# Altium schematic symbol library Regulator_Linear.SchLib: 1620 symbols (part 9 of 16)
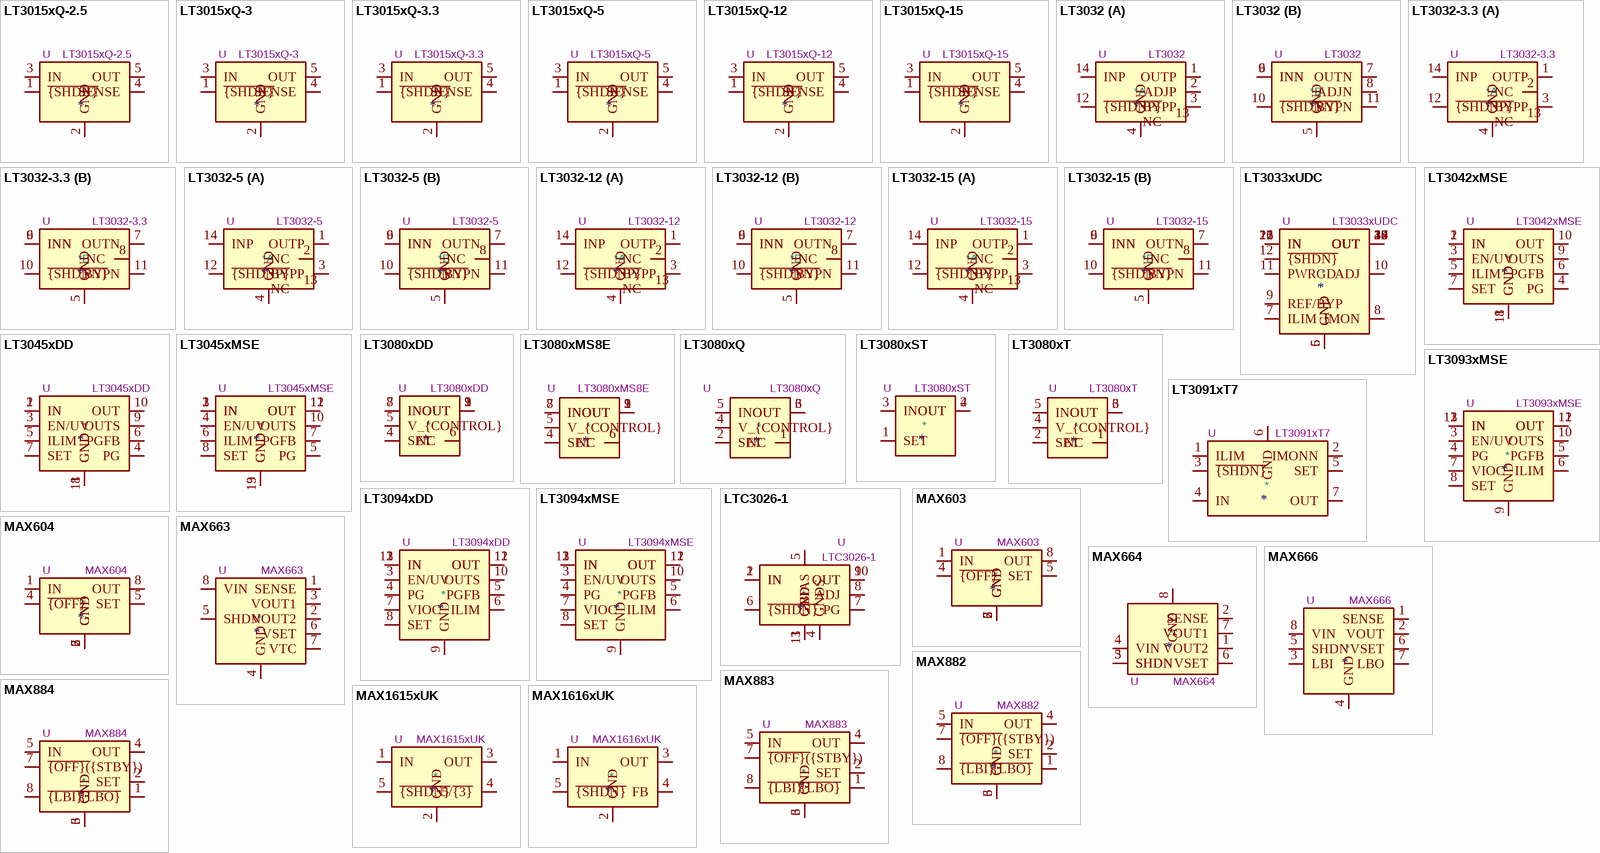
[diagram p48: symbols LT3015xQ-2.5 to MAX1616xUK]

## LT3015xQ-5
designator *  value LT3015xQ-5  Reference: U
-5V, 1.5A, Low Noise, Negative Linear Regulator with Precision Current Limit, TO-263-5; ki_keywords: negative voltage regulator; ki_fp_filters: TO*263*; Footprint: Package_TO_SOT_SMD:TO-263-5_TabPin3; Datasheet: https://www.analog.com/media/en/technical-documentation/data-sheets/3015fb.pdf; Description_: -5V, 1.5A, Low Noise, Negative Linear Regulator with Precision Current Limit, TO-263-5
pins: 1 ~{{SHDN}}, 2 GND, 3 IN, 4 SENSE, 5 OUT

## LT3015xQ-12
designator *  value LT3015xQ-12  Reference: U
-12V, 1.5A, Low Noise, Negative Linear Regulator with Precision Current Limit, TO-263-5; ki_keywords: negative voltage regulator; ki_fp_filters: TO*263*; Footprint: Package_TO_SOT_SMD:TO-263-5_TabPin3; Datasheet: https://www.analog.com/media/en/technical-documentation/data-sheets/3015fb.pdf; Description_: -12V, 1.5A, Low Noise, Negative Linear Regulator with Precision Current Limit, TO-263-5
pins: 1 ~{{SHDN}}, 2 GND, 3 IN, 4 SENSE, 5 OUT

## LT3015xQ-15
designator *  value LT3015xQ-15  Reference: U
-15V, 1.5A, Low Noise, Negative Linear Regulator with Precision Current Limit, TO-263-5; ki_keywords: negative voltage regulator; ki_fp_filters: TO*263*; Footprint: Package_TO_SOT_SMD:TO-263-5_TabPin3; Datasheet: https://www.analog.com/media/en/technical-documentation/data-sheets/3015fb.pdf; Description_: -15V, 1.5A, Low Noise, Negative Linear Regulator with Precision Current Limit, TO-263-5
pins: 1 ~{{SHDN}}, 2 GND, 3 IN, 4 SENSE, 5 OUT

## LT3032
designator *  value LT3032  Reference: U
150mA, Dual Low Dropout Linear Regulator, Positive/Negative Low Noise, Adjustable Output, DFN-14; ki_keywords: LDO low noise; ki_fp_filters: Linear*DE14MA*; Footprint: Package_DFN_QFN:Linear_DE14MA; Datasheet: https://www.analog.com/media/en/technical-documentation/data-sheets/3032ff.pdf; Description_: 150mA, Dual Low Dropout Linear Regulator, Positive/Negative Low Noise, Adjustable Output, DFN-14
part A pins: 1 OUTP, 2 ADJP, 3 BYPP, 4 GND, 12 ~{{SHDNP}}, 13 NC, 14 INP
part B pins: 5 GND, 6 INN, 7 OUTN, 8 ADJN, 9 INN, 10 ~{{SHDNN}}, 11 BYPN

## LT3032-3.3
designator *  value LT3032-3.3  Reference: U
150mA, Dual Low Dropout Linear Regulator, Positive/Negative Low Noise, 3.3V Output, DFN-14; ki_keywords: LDO low noise; ki_fp_filters: Linear*DE14MA*; Footprint: Package_DFN_QFN:Linear_DE14MA; Datasheet: https://www.analog.com/media/en/technical-documentation/data-sheets/3032ff.pdf; Description_: 150mA, Dual Low Dropout Linear Regulator, Positive/Negative Low Noise, 3.3V Output, DFN-14
part A pins: 1 OUTP, 2 NC, 3 BYPP, 4 GND, 12 ~{{SHDNP}}, 13 NC, 14 INP
part B pins: 5 GND, 6 INN, 7 OUTN, 8 NC, 9 INN, 10 ~{{SHDNN}}, 11 BYPN

## LT3032-5
designator *  value LT3032-5  Reference: U
150mA, Dual Low Dropout Linear Regulator, Positive/Negative Low Noise, 5V Output, DFN-14; ki_keywords: LDO low noise; ki_fp_filters: Linear*DE14MA*; Footprint: Package_DFN_QFN:Linear_DE14MA; Datasheet: https://www.analog.com/media/en/technical-documentation/data-sheets/3032ff.pdf; Description_: 150mA, Dual Low Dropout Linear Regulator, Positive/Negative Low Noise, 5V Output, DFN-14
part A pins: 1 OUTP, 2 NC, 3 BYPP, 4 GND, 12 ~{{SHDNP}}, 13 NC, 14 INP
part B pins: 5 GND, 6 INN, 7 OUTN, 8 NC, 9 INN, 10 ~{{SHDNN}}, 11 BYPN

## LT3032-12
designator *  value LT3032-12  Reference: U
150mA, Dual Low Dropout Linear Regulator, Positive/Negative Low Noise, 12V Output, DFN-14; ki_keywords: LDO low noise; ki_fp_filters: Linear*DE14MA*; Footprint: Package_DFN_QFN:Linear_DE14MA; Datasheet: https://www.analog.com/media/en/technical-documentation/data-sheets/3032ff.pdf; Description_: 150mA, Dual Low Dropout Linear Regulator, Positive/Negative Low Noise, 12V Output, DFN-14
part A pins: 1 OUTP, 2 NC, 3 BYPP, 4 GND, 12 ~{{SHDNP}}, 13 NC, 14 INP
part B pins: 5 GND, 6 INN, 7 OUTN, 8 NC, 9 INN, 10 ~{{SHDNN}}, 11 BYPN

## LT3032-15
designator *  value LT3032-15  Reference: U
150mA, Dual Low Dropout Linear Regulator, Positive/Negative Low Noise, 15V Output, DFN-14; ki_keywords: LDO low noise; ki_fp_filters: Linear*DE14MA*; Footprint: Package_DFN_QFN:Linear_DE14MA; Datasheet: https://www.analog.com/media/en/technical-documentation/data-sheets/3032ff.pdf; Description_: 150mA, Dual Low Dropout Linear Regulator, Positive/Negative Low Noise, 15V Output, DFN-14
part A pins: 1 OUTP, 2 NC, 3 BYPP, 4 GND, 12 ~{{SHDNP}}, 13 NC, 14 INP
part B pins: 5 GND, 6 INN, 7 OUTN, 8 NC, 9 INN, 10 ~{{SHDNN}}, 11 BYPN

## LT3033xUDC
designator *  value LT3033xUDC  Reference: U
3A, Very Low Dropout Linear Regulator with Programmable Current Limit, 0.95V to 10Vin, 0.2V to 9.7Vout, QFN-20; ki_keywords: linear positive voltage regulator; ki_fp_filters: *QFN*4EP*3x4mm*P0.5mm*; Footprint: Package_DFN_QFN:UDC-QFN-20-4EP_3x4mm_P0.5mm_EP0.41x0.25mm; Datasheet: https://www.analog.com/media/en/technical-documentation/data-sheets/LT3033.pdf; Description_: 3A, Very Low Dropout Linear Regulator with Programmable Current Limit, 0.95V to 10Vin, 0.2V to 9.7Vout, QFN-20
pins: 1 IN, 2 IN, 3 OUT, 4 OUT, 5 GND, 6 GND, 7 ILIM, 8 IMON, 9 REF/BYP, 10 ADJ, 11 PWRGD, 12 ~{{SHDN}}, 13 OUT, 14 OUT, 15 IN, 16 IN, 17 OUT, 18 OUT, 19 OUT, 20 OUT, 21 IN, 22 IN, 23 OUT, 24 OUT

## LT3042xMSE
designator *  value LT3042xMSE  Reference: U
200mA, Adjustable, Ultralow Noise, Ultrahigh PSRR RF Linear Regulator, MSOP-10; ki_keywords: linear voltage regulator low-noise; ki_fp_filters: MSOP*1EP*3x3mm*P0.5mm*; Footprint: Package_SO:MSOP-10-1EP_3x3mm_P0.5mm_EP1.68x1.88mm; Datasheet: https://www.analog.com/media/en/technical-documentation/data-sheets/3042fb.pdf; Description_: 200mA, Adjustable, Ultralow Noise, Ultrahigh PSRR RF Linear Regulator, MSOP-10
pins: 1 IN, 2 IN, 3 EN/UV, 4 PG, 5 ILIM, 6 PGFB, 7 SET, 8 GND, 9 OUTS, 10 OUT, 11 GND

## LT3045xDD
designator *  value LT3045xDD  Reference: U
500mA, Adjustable, Ultralow Noise, Ultrahigh PSRR Linear Regulator, DFN-10; ki_keywords: linear voltage regulator low-noise; ki_fp_filters: DFN*1EP*3x3mm*P0.5mm*; Footprint: Package_DFN_QFN:DFN-10-1EP_3x3mm_P0.5mm_EP1.65x2.38mm; Datasheet: https://www.analog.com/media/en/technical-documentation/data-sheets/3045fa.pdf; Description_: 500mA, Adjustable, Ultralow Noise, Ultrahigh PSRR Linear Regulator, DFN-10
pins: 1 IN, 2 IN, 3 EN/UV, 4 PG, 5 ILIM, 6 PGFB, 7 SET, 8 GND, 9 OUTS, 10 OUT, 11 GND

## LT3045xMSE
designator *  value LT3045xMSE  Reference: U
500mA, Adjustable, Ultralow Noise, Ultrahigh PSRR Linear Regulator, MSOP-12; ki_keywords: linear voltage regulator low-noise; ki_fp_filters: MSOP*1EP*3x4.039mm*P0.65mm*; Footprint: Package_SO:MSOP-12-1EP_3x4.039mm_P0.65mm_EP1.651x2.845mm; Datasheet: https://www.analog.com/media/en/technical-documentation/data-sheets/3045fa.pdf; Description_: 500mA, Adjustable, Ultralow Noise, Ultrahigh PSRR Linear Regulator, MSOP-12
pins: 1 IN, 2 IN, 3 IN, 4 EN/UV, 5 PG, 6 ILIM, 7 PGFB, 8 SET, 9 GND, 10 OUTS, 11 OUT, 12 OUT, 13 GND

## LT3080xDD
designator *  value LT3080xDD  Reference: U
Adjustable 1.1A Single Resistor Low Dropout Regulator, DFN-8; ki_keywords: linear analog linear-technology; ki_fp_filters: DFN*1EP?3x3mm*P0.5mm*; Footprint: Package_DFN_QFN:DFN-8-1EP_3x3mm_P0.5mm_EP1.66x2.38mm; Datasheet: https://www.analog.com/media/en/technical-documentation/data-sheets/3080fc.pdf; Description_: Adjustable 1.1A Single Resistor Low Dropout Regulator, DFN-8
pins: 1 OUT, 2 OUT, 3 OUT, 4 SET, 5 V_{CONTROL}, 6 NC, 7 IN, 8 IN, 9 OUT

## LT3080xMS8E
designator *  value LT3080xMS8E  Reference: U
Adjustable 1.1A Single Resistor Low Dropout Regulator, MSOP-8; ki_keywords: linear analog linear-technology; ki_fp_filters: MSOP*1EP?3x3mm*P0.65mm*; Footprint: Package_SO:MSOP-8-1EP_3x3mm_P0.65mm_EP1.68x1.88mm; Datasheet: https://www.analog.com/media/en/technical-documentation/data-sheets/3080fc.pdf; Description_: Adjustable 1.1A Single Resistor Low Dropout Regulator, MSOP-8
pins: 1 OUT, 2 OUT, 3 OUT, 4 SET, 5 V_{CONTROL}, 6 NC, 7 IN, 8 IN, 9 OUT

## LT3080xQ
designator *  value LT3080xQ  Reference: U
Adjustable 1.1A Single Resistor Low Dropout Regulator, TO-263; ki_keywords: linear analog linear-technology; ki_fp_filters: TO?263*TabPin3*; Footprint: Package_TO_SOT_SMD:TO-263-5_TabPin3; Datasheet: https://www.analog.com/media/en/technical-documentation/data-sheets/3080fc.pdf; Description_: Adjustable 1.1A Single Resistor Low Dropout Regulator, TO-263
pins: 1 NC, 2 SET, 3 OUT, 4 V_{CONTROL}, 5 IN, 6 OUT

## LT3080xST
designator *  value LT3080xST  Reference: U
Adjustable 1.1A Single Resistor Low Dropout Regulator, SOT-223; ki_keywords: linear analog linear-technology; ki_fp_filters: SOT?223*; Footprint: Package_TO_SOT_SMD:SOT-223; Datasheet: https://www.analog.com/media/en/technical-documentation/data-sheets/3080fc.pdf; Description_: Adjustable 1.1A Single Resistor Low Dropout Regulator, SOT-223
pins: 1 SET, 2 OUT, 3 IN, 4 OUT

## LT3080xT
designator *  value LT3080xT  Reference: U
Adjustable 1.1A Single Resistor Low Dropout Regulator, TO-220; ki_keywords: linear analog linear-technology; ki_fp_filters: TO?220*StaggerOdd*; Footprint: Package_TO_SOT_THT:TO-220-5_P3.4x3.7mm_StaggerOdd_Lead3.8mm_Vertical; Datasheet: https://www.analog.com/media/en/technical-documentation/data-sheets/3080fc.pdf; Description_: Adjustable 1.1A Single Resistor Low Dropout Regulator, TO-220
pins: 1 NC, 2 SET, 3 OUT, 4 V_{CONTROL}, 5 IN, 6 OUT

## LT3091xT7
designator *  value LT3091xT7  Reference: U
–36V, 1.5A Negative Linear Adjustable Regulator with Programmable Current Limit, TO-220-7; ki_keywords: LDO low noise; ki_fp_filters: TO*220*P2.54x3.7mm*; Footprint: Package_TO_SOT_THT:TO-220-7_P2.54x3.7mm_StaggerOdd_Lead3.8mm_Vertical; Datasheet: https://www.analog.com/media/en/technical-documentation/data-sheets/3091fa.pdf; Description_: –36V, 1.5A Negative Linear Adjustable Regulator with Programmable Current Limit, TO-220-7
pins: 1 ILIM, 2 IMONN, 3 ~{{SHDN}}, 4 IN, 5 SET, 6 GND, 7 OUT

## LT3093xMSE
designator *  value LT3093xMSE  Reference: U
-200mA, Adjustable, Ultralow Noise, Ultrahigh PSRR RF Negative Linear Regulator, MSOP-12; ki_keywords: linear negative voltage regulator low-noise; ki_fp_filters: MSOP*1EP*3x4.039mm*P0.65mm*; Footprint: Package_SO:MSOP-12-1EP_3x4.039mm_P0.65mm_EP1.651x2.845mm; Datasheet: https://www.analog.com/media/en/technical-documentation/data-sheets/lt3093.pdf; Description_: -200mA, Adjustable, Ultralow Noise, Ultrahigh PSRR RF Negative Linear Regulator, MSOP-12
pins: 1 IN, 2 IN, 3 EN/UV, 4 PG, 5 PGFB, 6 ILIM, 7 VIOC, 8 SET, 9 GND, 10 OUTS, 11 OUT, 12 OUT, 13 IN

## LT3094xDD
designator *  value LT3094xDD  Reference: U
–20V, 500mA, Ultralow Noise, Ultrahigh PSRR Negative Linear Regulator, -1.8..-20Vin, 0..-19.5Vout, DFN-12; ki_keywords: linear negative voltage regulator low-noise; ki_fp_filters: DFN*1EP*3x3mm*P0.45mm*; Footprint: Package_DFN_QFN:DFN-12-1EP_3x3mm_P0.45mm_EP1.65x2.38mm_ThermalVias; Datasheet: https://www.analog.com/media/en/technical-documentation/data-sheets/LT3094.pdf; Description_: –20V, 500mA, Ultralow Noise, Ultrahigh PSRR Negative Linear Regulator, -1.8..-20Vin, 0..-19.5Vout, DFN-12
pins: 1 IN, 2 IN, 3 EN/UV, 4 PG, 5 PGFB, 6 ILIM, 7 VIOC, 8 SET, 9 GND, 10 OUTS, 11 OUT, 12 OUT, 13 IN

## LT3094xMSE
designator *  value LT3094xMSE  Reference: U
-500mA, Adjustable, Ultralow Noise, Ultrahigh PSRR RF Negative Linear Regulator, MSOP-12; ki_keywords: linear negative voltage regulator low-noise; ki_fp_filters: MSOP*1EP*3x4.039mm*P0.65mm*; Footprint: Package_SO:MSOP-12-1EP_3x4.039mm_P0.65mm_EP1.651x2.845mm; Datasheet: https://www.analog.com/media/en/technical-documentation/data-sheets/LT3094.pdf; Description_: -500mA, Adjustable, Ultralow Noise, Ultrahigh PSRR RF Negative Linear Regulator, MSOP-12
pins: 1 IN, 2 IN, 3 EN/UV, 4 PG, 5 PGFB, 6 ILIM, 7 VIOC, 8 SET, 9 GND, 10 OUTS, 11 OUT, 12 OUT, 13 IN

## LTC3026-1
designator *  value LTC3026-1  Reference: U
1.14V-5.5V, 1.5A Low Input Voltage VLDO Linear Regulator; ki_keywords: regulator LDO positive adjustable; ki_fp_filters: DFN*1EP*3x3mm*P0.5mm*EP1.65x2.38mm* MSOP*1EP*3x3mm*P0.5mm*EP1.68x1.88mm*; Datasheet: https://www.analog.com/media/en/technical-documentation/data-sheets/30261f.pdf; Description_: 1.14V-5.5V, 1.5A Low Input Voltage VLDO Linear Regulator
pins: 1 IN, 2 IN, 3 GND, 4 GNDS, 5 BIAS, 6 ~{{SHDN}}, 7 PG, 8 ADJ, 9 OUT, 10 OUT, 11 GND

## MAX603
designator *  value MAX603  Reference: U
500mA Linear LDO Regulator, Fixed Output 5V, DIP-8/SO-8; ki_keywords: Linear LDO Regulator 500mA 5V fixed; ki_fp_filters: DIP*W7.62mm* SOIC*3.9x4.9mm*P1.27mm*; Datasheet: http://datasheets.maximintegrated.com/en/ds/MAX603-MAX604.pdf; Description_: 500mA Linear LDO Regulator, Fixed Output 5V, DIP-8/SO-8
pins: 1 IN, 2 GND, 3 GND, 4 ~{{OFF}}, 5 SET, 6 GND, 7 GND, 8 OUT

## MAX604
designator *  value MAX604  Reference: U
500mA Linear LDO Regulator, Fixed Output 3.3V, DIP-8/SO-8; ki_keywords: Linear LDO Regulator 500mA 3.3V fixed; ki_fp_filters: DIP*W7.62mm* SOIC*3.9x4.9mm*P1.27mm*; Datasheet: http://datasheets.maximintegrated.com/en/ds/MAX603-MAX604.pdf; Description_: 500mA Linear LDO Regulator, Fixed Output 3.3V, DIP-8/SO-8
pins: 1 IN, 2 GND, 3 GND, 4 ~{{OFF}}, 5 SET, 6 GND, 7 GND, 8 OUT

## MAX663
designator *  value MAX663  Reference: U
50mA Dual Mode 5V/Programmable Micropower Voltage Regulator, DIP-8/SO-8; ki_keywords: Linear LDO Regulator 50mA 5V fixed; ki_fp_filters: DIP*W7.62mm* SOIC*3.9x4.9mm*P1.27mm*; Datasheet: http://pdfserv.maximintegrated.com/en/ds/MAX663-MAX666.pdf; Description_: 50mA Dual Mode 5V/Programmable Micropower Voltage Regulator, DIP-8/SO-8
pins: 1 SENSE, 2 VOUT2, 3 VOUT1, 4 GND, 5 SHDN, 6 VSET, 7 VTC, 8 VIN

## MAX664
designator *  value MAX664  Reference: U
50mA Dual Mode -5V/Programmable Micropower Negative Voltage Regulator, DIP-8/SO-8; ki_keywords: Linear LDO Regulator 50mA -5V fixed negative; ki_fp_filters: DIP*W7.62mm* SOIC*3.9x4.9mm*P1.27mm*; Datasheet: http://pdfserv.maximintegrated.com/en/ds/MAX663-MAX666.pdf; Description_: 50mA Dual Mode -5V/Programmable Micropower Negative Voltage Regulator, DIP-8/SO-8
pins: 1 VOUT2, 2 SENSE, 3 SHDN, 4 VIN, 5 SHDN, 6 VSET, 7 VOUT1, 8 GND

## MAX666
designator *  value MAX666  Reference: U
50mA Dual Mode 5V/Programmable Micropower Voltage Regulator, DIP-8/SO-8; ki_keywords: Linear LDO Regulator 50mA 5V fixed; ki_fp_filters: DIP*W7.62mm* SOIC*3.9x4.9mm*P1.27mm*; Datasheet: http://pdfserv.maximintegrated.com/en/ds/MAX663-MAX666.pdf; Description_: 50mA Dual Mode 5V/Programmable Micropower Voltage Regulator, DIP-8/SO-8
pins: 1 SENSE, 2 VOUT, 3 LBI, 4 GND, 5 SHDN, 6 VSET, 7 LBO, 8 VIN

## MAX882
designator *  value MAX882  Reference: U
200mA Linear LDO Regulator, Fixed Output 3.3V or Adjustable with Standby Mode, 0C to +70C, DIP-8/SO-8; ki_fp_filters: DIP*W7.62mm* SOIC*3.9x4.9mm*P1.27mm*; Datasheet: https://datasheets.maximintegrated.com/en/ds/MAX882-MAX884.pdf; Description_: 200mA Linear LDO Regulator, Fixed Output 3.3V or Adjustable with Standby Mode, 0C to +70C, DIP-8/SO-8; ki_keywords: Linear LDO Regulator
pins: 1 ~{{LBO}}, 2 SET, 3 GND, 4 OUT, 5 IN, 6 GND, 7 ~{{OFF}(}{STBY}), 8 ~{{LBI}}

## MAX883
designator *  value MAX883  Reference: U
200mA Linear LDO Regulator, Fixed Output 5V or Adjustable with Shutdown Mode, 0C to +70C, DIP-8/SO-8; ki_fp_filters: DIP*W7.62mm* SOIC*3.9x4.9mm*P1.27mm*; Datasheet: https://datasheets.maximintegrated.com/en/ds/MAX882-MAX884.pdf; Description_: 200mA Linear LDO Regulator, Fixed Output 5V or Adjustable with Shutdown Mode, 0C to +70C, DIP-8/SO-8; ki_keywords: Linear LDO Regulator
pins: 1 ~{{LBO}}, 2 SET, 3 GND, 4 OUT, 5 IN, 6 GND, 7 ~{{OFF}(}{STBY}), 8 ~{{LBI}}

## MAX884
designator *  value MAX884  Reference: U
200mA Linear LDO Regulator, Fixed Output 3.3V or Adjustable with Shutdown Mode, 0C to +70C, DIP-8/SO-8; ki_fp_filters: DIP*W7.62mm* SOIC*3.9x4.9mm*P1.27mm*; Datasheet: https://datasheets.maximintegrated.com/en/ds/MAX882-MAX884.pdf; Description_: 200mA Linear LDO Regulator, Fixed Output 3.3V or Adjustable with Shutdown Mode, 0C to +70C, DIP-8/SO-8; ki_keywords: Linear LDO Regulator
pins: 1 ~{{LBO}}, 2 SET, 3 GND, 4 OUT, 5 IN, 6 GND, 7 ~{{OFF}(}{STBY}), 8 ~{{LBI}}

## MAX1615xUK
designator *  value MAX1615xUK  Reference: U
High Voltage, Low Power Linear Regulator for Notebook PCs - 3.3V or 5V Fixed; ki_keywords: Linear Voltage Regulator; ki_fp_filters: SOT?23?5*; Footprint: Package_TO_SOT_SMD:SOT-23-5; Datasheet: https://datasheets.maximintegrated.com/en/ds/MAX1615-MAX1616.pdf; Description_: High Voltage, Low Power Linear Regulator for Notebook PCs - 3.3V or 5V Fixed
pins: 1 IN, 2 GND, 3 OUT, 4 5/~{{3}}, 5 ~{{SHDN}}

## MAX1616xUK
designator *  value MAX1616xUK  Reference: U
High Voltage, Low Power Linear Regulator for Notebook PCs - Adjustable; ki_keywords: Linear Voltage Regulator; ki_fp_filters: SOT?23?5*; Footprint: Package_TO_SOT_SMD:SOT-23-5; Datasheet: https://datasheets.maximintegrated.com/en/ds/MAX1615-MAX1616.pdf; Description_: High Voltage, Low Power Linear Regulator for Notebook PCs - Adjustable
pins: 1 IN, 2 GND, 3 OUT, 4 FB, 5 ~{{SHDN}}

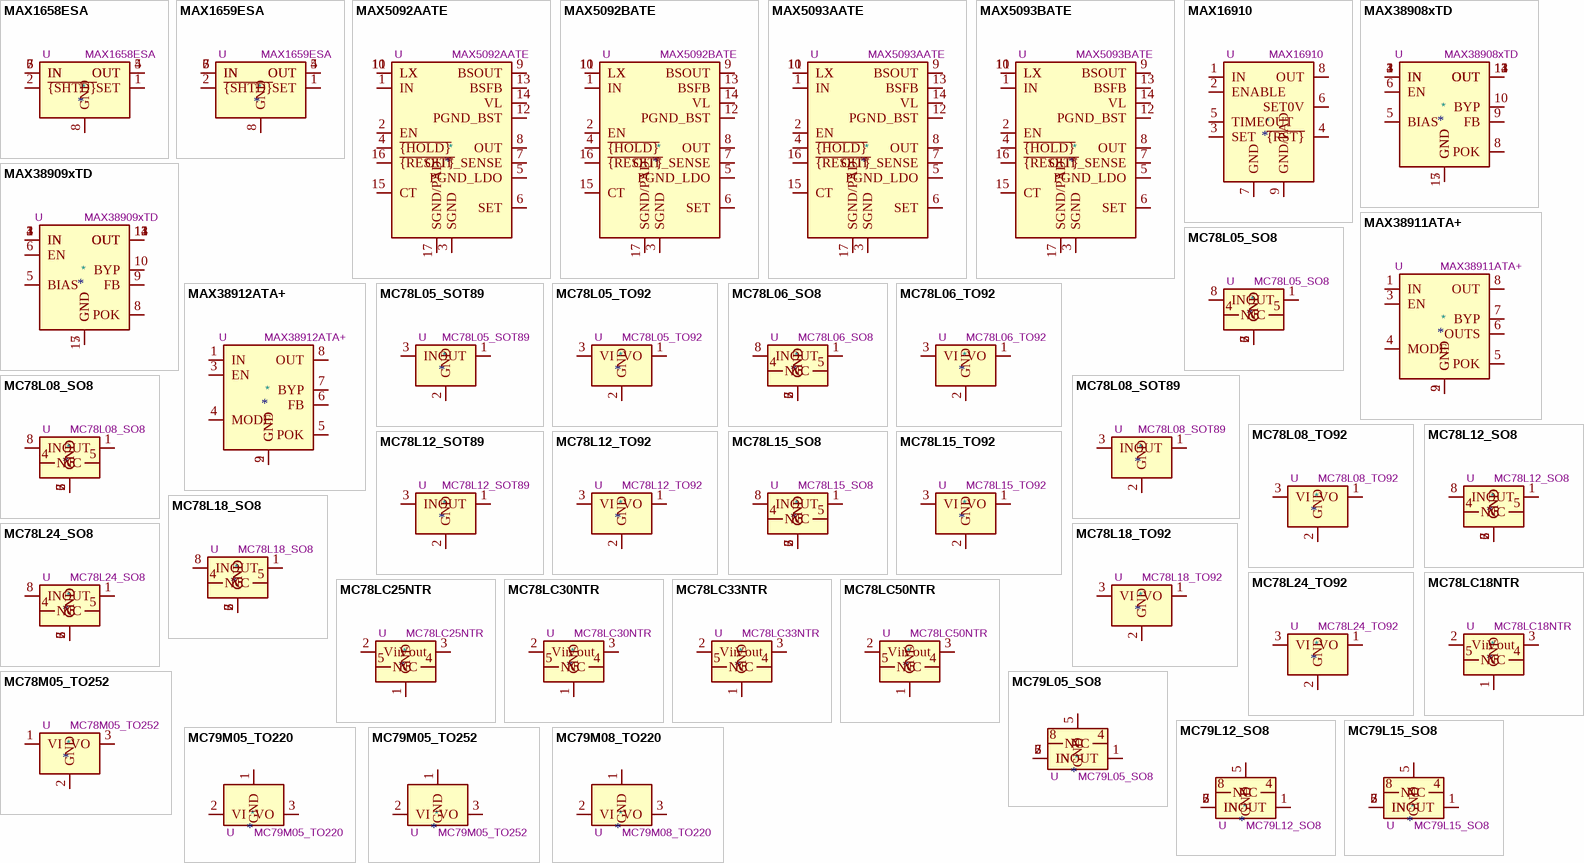
[diagram p22: symbols MAX1658ESA to MC79M08_TO220]

## MAX1658ESA
designator *  value MAX1658ESA  Reference: U
350mA Linear LDO Regulator, Fixed Output 3.3V, SO-8; ki_keywords: Linear LDO Regulator 350mA 3.3V; ki_fp_filters: SOIC*3.9x4.9mm*P1.27mm*; Footprint: Package_SO:SOIC-8_3.9x4.9mm_P1.27mm; Datasheet: http://datasheets.maximintegrated.com/en/ds/MAX1658-MAX1659.pdf; Description_: 350mA Linear LDO Regulator, Fixed Output 3.3V, SO-8
pins: 1 SET, 2 ~{{SHTD}}, 3 IN, 4 OUT, 5 OUT, 6 IN, 7 IN, 8 GND

## MAX1659ESA
designator *  value MAX1659ESA  Reference: U
350mA Linear LDO Regulator, Fixed Output 5V, SO-8; ki_keywords: Linear LDO Regulator 350mA 5V; ki_fp_filters: SOIC*3.9x4.9mm*P1.27mm*; Footprint: Package_SO:SOIC-8_3.9x4.9mm_P1.27mm; Datasheet: http://datasheets.maximintegrated.com/en/ds/MAX1658-MAX1659.pdf; Description_: 350mA Linear LDO Regulator, Fixed Output 5V, SO-8
pins: 1 SET, 2 ~{{SHTD}}, 3 IN, 4 OUT, 5 OUT, 6 IN, 7 IN, 8 GND

## MAX5092AATE
designator *  value MAX5092AATE  Reference: U
4V to 72V Input LDOs with Boost Preregulator, 250mA Output, 3.3V Preset Vout, TQFN-16; ki_keywords: High Voltage 72V Input LDO Boost Preregulator 250mA 3.3V; ki_fp_filters: QFN*5x5mm*P0.8mm*; Footprint: Package_DFN_QFN:QFN-16-1EP_5x5mm_P0.8mm_EP2.7x2.7mm; Datasheet: http://datasheets.maximintegrated.com/en/ds/MAX5092-MAX5093.pdf; Description_: 4V to 72V Input LDOs with Boost Preregulator, 250mA Output, 3.3V Preset Vout, TQFN-16
pins: 1 IN, 2 EN, 3 SGND, 4 ~{{HOLD}}, 5 PGND_LDO, 6 SET, 7 OUT_SENSE, 8 OUT, 9 BSOUT, 10 LX, 11 LX, 12 PGND_BST, 13 BSFB, 14 VL, 15 CT, 16 ~{{RESET}}, 17 SGND/PAD

## MAX5092BATE
designator *  value MAX5092BATE  Reference: U
4V to 72V Input LDOs with Boost Preregulator, 250mA Output, 5V Preset Vout, TQFN-16; ki_keywords: High Voltage 72V Input LDO Boost Preregulator 250mA 5V; ki_fp_filters: QFN*5x5mm*P0.8mm*; Footprint: Package_DFN_QFN:QFN-16-1EP_5x5mm_P0.8mm_EP2.7x2.7mm; Datasheet: http://datasheets.maximintegrated.com/en/ds/MAX5092-MAX5093.pdf; Description_: 4V to 72V Input LDOs with Boost Preregulator, 250mA Output, 5V Preset Vout, TQFN-16
pins: 1 IN, 2 EN, 3 SGND, 4 ~{{HOLD}}, 5 PGND_LDO, 6 SET, 7 OUT_SENSE, 8 OUT, 9 BSOUT, 10 LX, 11 LX, 12 PGND_BST, 13 BSFB, 14 VL, 15 CT, 16 ~{{RESET}}, 17 SGND/PAD

## MAX5093AATE
designator *  value MAX5093AATE  Reference: U
4V to 72V Input LDOs with Boost Preregulator, 250mA Output, 3.3V Preset Vout, TQFN-16; ki_keywords: High Voltage 72V Input LDO Boost Preregulator 250mA 3.3V; ki_fp_filters: QFN*5x5mm*P0.8mm*; Footprint: Package_DFN_QFN:QFN-16-1EP_5x5mm_P0.8mm_EP2.7x2.7mm; Datasheet: http://datasheets.maximintegrated.com/en/ds/MAX5092-MAX5093.pdf; Description_: 4V to 72V Input LDOs with Boost Preregulator, 250mA Output, 3.3V Preset Vout, TQFN-16
pins: 1 IN, 2 EN, 3 SGND, 4 ~{{HOLD}}, 5 PGND_LDO, 6 SET, 7 OUT_SENSE, 8 OUT, 9 BSOUT, 10 LX, 11 LX, 12 PGND_BST, 13 BSFB, 14 VL, 15 CT, 16 ~{{RESET}}, 17 SGND/PAD

## MAX5093BATE
designator *  value MAX5093BATE  Reference: U
4V to 72V Input LDOs with Boost Preregulator, 250mA Output, 5V Preset Vout, TQFN-16; ki_keywords: High Voltage 72V Input LDO Boost Preregulator 250mA 5V; ki_fp_filters: QFN*5x5mm*P0.8mm*; Footprint: Package_DFN_QFN:QFN-16-1EP_5x5mm_P0.8mm_EP2.7x2.7mm; Datasheet: http://datasheets.maximintegrated.com/en/ds/MAX5092-MAX5093.pdf; Description_: 4V to 72V Input LDOs with Boost Preregulator, 250mA Output, 5V Preset Vout, TQFN-16
pins: 1 IN, 2 EN, 3 SGND, 4 ~{{HOLD}}, 5 PGND_LDO, 6 SET, 7 OUT_SENSE, 8 OUT, 9 BSOUT, 10 LX, 11 LX, 12 PGND_BST, 13 BSFB, 14 VL, 15 CT, 16 ~{{RESET}}, 17 SGND/PAD

## MAX16910
designator *  value MAX16910  Reference: U
200mA Automotive Linear LDO Regulator, Fixed Output 5V/3.3V or Adjustable, SO-8/DFN-8; ki_fp_filters: SOIC*3.9x4.9mm*P1.27mm* DFN*3x3mm*P0.65mm*; Datasheet: https://datasheets.maximintegrated.com/en/ds/MAX16910.pdf; Description_: 200mA Automotive Linear LDO Regulator, Fixed Output 5V/3.3V or Adjustable, SO-8/DFN-8; ki_keywords: Linear LDO Regulator
pins: 1 IN, 2 ENABLE, 3 SET, 4 ~{{RST}}, 5 TIMEOUT, 6 SET0V, 7 GND, 8 OUT, 9 GND/PAD

## MAX38908xTD
designator *  value MAX38908xTD  Reference: U
4A, High-Performance LDO Linear Regulator, 0.9V-5.5Vin, 0.6V-5Vout, 2.7V-20Vbias, TDFN-14; ki_keywords: Linear LDO Regulator Maxim Analog Devices; ki_fp_filters: *TDFN*1EP*3x3mm*P0.4mm*; Footprint: Package_DFN_QFN:TDFN-14-1EP_3x3mm_P0.4mm_EP1.78x2.35mm; Datasheet: https://www.analog.com/media/en/technical-documentation/data-sheets/MAX38907-MAX38908.pdf; Description_: 4A, High-Performance LDO Linear Regulator, 0.9V-5.5Vin, 0.6V-5Vout, 2.7V-20Vbias, TDFN-14
pins: 1 IN, 2 IN, 3 IN, 4 IN, 5 BIAS, 6 EN, 7 GND, 8 POK, 9 FB, 10 BYP, 11 OUT, 12 OUT, 13 OUT, 14 OUT, 15 GND

## MAX38909xTD
designator *  value MAX38909xTD  Reference: U
2A, High-Performance LDO Linear Regulator, 0.9V-5.5Vin, 0.6V-5Vout, 2.7V-20Vbias, TDFN-14; ki_keywords: Linear LDO Regulator Maxim Analog Devices; ki_fp_filters: *TDFN*1EP*3x3mm*P0.4mm*; Footprint: Package_DFN_QFN:TDFN-14-1EP_3x3mm_P0.4mm_EP1.78x2.35mm; Datasheet: https://www.analog.com/media/en/technical-documentation/data-sheets/MAX38909.pdf; Description_: 2A, High-Performance LDO Linear Regulator, 0.9V-5.5Vin, 0.6V-5Vout, 2.7V-20Vbias, TDFN-14
pins: 1 IN, 2 IN, 3 IN, 4 IN, 5 BIAS, 6 EN, 7 GND, 8 POK, 9 FB, 10 BYP, 11 OUT, 12 OUT, 13 OUT, 14 OUT, 15 GND

## MAX38911ATA+
designator *  value MAX38911ATA+  Reference: U
11μVRMS Low-Noise, 500mA LDO Linear Regulator with Low-Power Mode, 2V-5.5Vin, 1.8Vout, TDFN-8; ki_keywords: Linear LDO Regulator Maxim Analog Devices; ki_fp_filters: *TDFN*1EP*2x2mm*P0.5mm*; Footprint: Package_DFN_QFN:TDFN-8-1EP_2x2mm_P0.5mm_EP0.8x1.2mm; Datasheet: https://www.analog.com/media/en/technical-documentation/data-sheets/MAX38911-MAX38912.pdf; Description_: 11μVRMS Low-Noise, 500mA LDO Linear Regulator with Low-Power Mode, 2V-5.5Vin, 1.8Vout, TDFN-8
pins: 1 IN, 2 GND, 3 EN, 4 MODE, 5 POK, 6 OUTS, 7 BYP, 8 OUT, 9 GND

## MAX38912ATA+
designator *  value MAX38912ATA+  Reference: U
11μVRMS Low-Noise, 500mA LDO Linear Regulator with Low-Power Mode, 1.7V-5.5Vin, 0.8V-5Vout, TDFN-8; ki_keywords: Linear LDO Regulator Maxim Analog Devices; ki_fp_filters: *TDFN*1EP*2x2mm*P0.5mm*; Footprint: Package_DFN_QFN:TDFN-8-1EP_2x2mm_P0.5mm_EP0.8x1.2mm; Datasheet: https://www.analog.com/media/en/technical-documentation/data-sheets/MAX38911-MAX38912.pdf; Description_: 11μVRMS Low-Noise, 500mA LDO Linear Regulator with Low-Power Mode, 1.7V-5.5Vin, 0.8V-5Vout, TDFN-8
pins: 1 IN, 2 GND, 3 EN, 4 MODE, 5 POK, 6 FB, 7 BYP, 8 OUT, 9 GND

## MC78L05_SO8
designator *  value MC78L05_SO8  Reference: U
Positive 100mA 30V Linear Regulator, Fixed Output 5V, SO-8; ki_keywords: Voltage Regulator 100mA Positive; ki_fp_filters: SOIC*3.9x4.9mm*P1.27mm*; Footprint: Package_SO:SOIC-8_3.9x4.9mm_P1.27mm; Datasheet: https://www.onsemi.com/pub/Collateral/MC78L00A-D.PDF; Description_: Positive 100mA 30V Linear Regulator, Fixed Output 5V, SO-8
pins: 1 OUT, 2 GND, 3 GND, 4 NC, 5 NC, 6 GND, 7 GND, 8 IN

## MC78L05_SOT89
designator *  value MC78L05_SOT89  Reference: U
Positive 100mA 30V Linear Regulator, Fixed Output 5V, SOT-89; ki_keywords: Voltage Regulator 100mA Positive; ki_fp_filters: SOT?89*; Footprint: Package_TO_SOT_SMD:SOT-89-3; Datasheet: https://www.onsemi.com/pub/Collateral/MC78L00A-D.PDF; Description_: Positive 100mA 30V Linear Regulator, Fixed Output 5V, SOT-89
pins: 1 OUT, 2 GND, 3 IN

## MC78L05_TO92
designator *  value MC78L05_TO92  Reference: U
Positive 100mA 30V Linear Regulator, Fixed Output 5V, TO-92; ki_keywords: Voltage Regulator 100mA Positive; ki_fp_filters: TO?92*; Footprint: Package_TO_SOT_THT:TO-92_Inline; Datasheet: https://www.onsemi.com/pub/Collateral/MC78L00A-D.PDF; Description_: Positive 100mA 30V Linear Regulator, Fixed Output 5V, TO-92
pins: 1 VO, 2 GND, 3 VI

## MC78L06_SO8
designator *  value MC78L06_SO8  Reference: U
Positive 100mA 30V Linear Regulator, Fixed Output 6V, SO-8; ki_keywords: Voltage Regulator 100mA Positive; ki_fp_filters: SOIC*3.9x4.9mm*P1.27mm*; Footprint: Package_SO:SOIC-8_3.9x4.9mm_P1.27mm; Datasheet: https://www.onsemi.com/pub/Collateral/MC78L00A-D.PDF; Description_: Positive 100mA 30V Linear Regulator, Fixed Output 6V, SO-8
pins: 1 OUT, 2 GND, 3 GND, 4 NC, 5 NC, 6 GND, 7 GND, 8 IN

## MC78L06_TO92
designator *  value MC78L06_TO92  Reference: U
Positive 100mA 30V Linear Regulator, Fixed Output 6V, TO-92; ki_keywords: Voltage Regulator 100mA Positive; ki_fp_filters: TO?92*; Footprint: Package_TO_SOT_THT:TO-92_Inline; Datasheet: https://www.onsemi.com/pub/Collateral/MC78L00A-D.PDF; Description_: Positive 100mA 30V Linear Regulator, Fixed Output 6V, TO-92
pins: 1 VO, 2 GND, 3 VI

## MC78L08_SO8
designator *  value MC78L08_SO8  Reference: U
Positive 100mA 30V Linear Regulator, Fixed Output 8V, SO-8; ki_keywords: Voltage Regulator 100mA Positive; ki_fp_filters: SOIC*3.9x4.9mm*P1.27mm*; Footprint: Package_SO:SOIC-8_3.9x4.9mm_P1.27mm; Datasheet: https://www.onsemi.com/pub/Collateral/MC78L00A-D.PDF; Description_: Positive 100mA 30V Linear Regulator, Fixed Output 8V, SO-8
pins: 1 OUT, 2 GND, 3 GND, 4 NC, 5 NC, 6 GND, 7 GND, 8 IN

## MC78L08_SOT89
designator *  value MC78L08_SOT89  Reference: U
Positive 100mA 30V Linear Regulator, Fixed Output 8V, SOT-89; ki_keywords: Voltage Regulator 100mA Positive; ki_fp_filters: SOT?89*; Footprint: Package_TO_SOT_SMD:SOT-89-3; Datasheet: https://www.onsemi.com/pub/Collateral/MC78L00A-D.PDF; Description_: Positive 100mA 30V Linear Regulator, Fixed Output 8V, SOT-89
pins: 1 OUT, 2 GND, 3 IN

## MC78L08_TO92
designator *  value MC78L08_TO92  Reference: U
Positive 100mA 30V Linear Regulator, Fixed Output 8V, TO-92; ki_keywords: Voltage Regulator 100mA Positive; ki_fp_filters: TO?92*; Footprint: Package_TO_SOT_THT:TO-92_Inline; Datasheet: https://www.onsemi.com/pub/Collateral/MC78L00A-D.PDF; Description_: Positive 100mA 30V Linear Regulator, Fixed Output 8V, TO-92
pins: 1 VO, 2 GND, 3 VI

## MC78L12_SO8
designator *  value MC78L12_SO8  Reference: U
Positive 100mA 30V Linear Regulator, Fixed Output 12V, SO-8; ki_keywords: Voltage Regulator 100mA Positive; ki_fp_filters: SOIC*3.9x4.9mm*P1.27mm*; Footprint: Package_SO:SOIC-8_3.9x4.9mm_P1.27mm; Datasheet: https://www.onsemi.com/pub/Collateral/MC78L00A-D.PDF; Description_: Positive 100mA 30V Linear Regulator, Fixed Output 12V, SO-8
pins: 1 OUT, 2 GND, 3 GND, 4 NC, 5 NC, 6 GND, 7 GND, 8 IN

## MC78L12_SOT89
designator *  value MC78L12_SOT89  Reference: U
Positive 100mA 30V Linear Regulator, Fixed Output 12V, SOT-89; ki_keywords: Voltage Regulator 100mA Positive; ki_fp_filters: SOT?89*; Footprint: Package_TO_SOT_SMD:SOT-89-3; Datasheet: https://www.onsemi.com/pub/Collateral/MC78L00A-D.PDF; Description_: Positive 100mA 30V Linear Regulator, Fixed Output 12V, SOT-89
pins: 1 OUT, 2 GND, 3 IN

## MC78L12_TO92
designator *  value MC78L12_TO92  Reference: U
Positive 100mA 30V Linear Regulator, Fixed Output 12V, TO-92; ki_keywords: Voltage Regulator 100mA Positive; ki_fp_filters: TO?92*; Footprint: Package_TO_SOT_THT:TO-92_Inline; Datasheet: https://www.onsemi.com/pub/Collateral/MC78L00A-D.PDF; Description_: Positive 100mA 30V Linear Regulator, Fixed Output 12V, TO-92
pins: 1 VO, 2 GND, 3 VI

## MC78L15_SO8
designator *  value MC78L15_SO8  Reference: U
Positive 100mA 30V Linear Regulator, Fixed Output 15V, SO-8; ki_keywords: Voltage Regulator 100mA Positive; ki_fp_filters: SOIC*3.9x4.9mm*P1.27mm*; Footprint: Package_SO:SOIC-8_3.9x4.9mm_P1.27mm; Datasheet: https://www.onsemi.com/pub/Collateral/MC78L00A-D.PDF; Description_: Positive 100mA 30V Linear Regulator, Fixed Output 15V, SO-8
pins: 1 OUT, 2 GND, 3 GND, 4 NC, 5 NC, 6 GND, 7 GND, 8 IN

## MC78L15_TO92
designator *  value MC78L15_TO92  Reference: U
Positive 100mA 30V Linear Regulator, Fixed Output 15V, TO-92; ki_keywords: Voltage Regulator 100mA Positive; ki_fp_filters: TO?92*; Footprint: Package_TO_SOT_THT:TO-92_Inline; Datasheet: https://www.onsemi.com/pub/Collateral/MC78L00A-D.PDF; Description_: Positive 100mA 30V Linear Regulator, Fixed Output 15V, TO-92
pins: 1 VO, 2 GND, 3 VI

## MC78L18_SO8
designator *  value MC78L18_SO8  Reference: U
Positive 100mA 30V Linear Regulator, Fixed Output 18V, SO-8; ki_keywords: Voltage Regulator 100mA Positive; ki_fp_filters: SOIC*3.9x4.9mm*P1.27mm*; Footprint: Package_SO:SOIC-8_3.9x4.9mm_P1.27mm; Datasheet: http://pdf.datasheetcatalog.com/datasheet/vishay/mc78l00.pdf; Description_: Positive 100mA 30V Linear Regulator, Fixed Output 18V, SO-8
pins: 1 OUT, 2 GND, 3 GND, 4 NC, 5 NC, 6 GND, 7 GND, 8 IN

## MC78L18_TO92
designator *  value MC78L18_TO92  Reference: U
Positive 100mA 30V Linear Regulator, Fixed Output 18V, TO-92; ki_keywords: Voltage Regulator 100mA Positive; ki_fp_filters: TO?92*; Footprint: Package_TO_SOT_THT:TO-92_Inline; Datasheet: http://pdf.datasheetcatalog.com/datasheet/vishay/mc78l00.pdf; Description_: Positive 100mA 30V Linear Regulator, Fixed Output 18V, TO-92
pins: 1 VO, 2 GND, 3 VI

## MC78L24_SO8
designator *  value MC78L24_SO8  Reference: U
Positive 100mA 30V Linear Regulator, Fixed Output 24V, SO-8; ki_keywords: Voltage Regulator 100mA Positive; ki_fp_filters: SOIC*3.9x4.9mm*P1.27mm*; Footprint: Package_SO:SOIC-8_3.9x4.9mm_P1.27mm; Datasheet: http://pdf.datasheetcatalog.com/datasheet/vishay/mc78l00.pdf; Description_: Positive 100mA 30V Linear Regulator, Fixed Output 24V, SO-8
pins: 1 OUT, 2 GND, 3 GND, 4 NC, 5 NC, 6 GND, 7 GND, 8 IN

## MC78L24_TO92
designator *  value MC78L24_TO92  Reference: U
Positive 100mA 30V Linear Regulator, Fixed Output 24V, TO-92; ki_keywords: Voltage Regulator 100mA Positive; ki_fp_filters: TO?92*; Footprint: Package_TO_SOT_THT:TO-92_Inline; Datasheet: http://pdf.datasheetcatalog.com/datasheet/vishay/mc78l00.pdf; Description_: Positive 100mA 30V Linear Regulator, Fixed Output 24V, TO-92
pins: 1 VO, 2 GND, 3 VI

## MC78LC18NTR
designator *  value MC78LC18NTR  Reference: U
Positive 50mA 12V Linear Regulator, Fixed Output 1.8V, SOT23-5; ki_keywords: Voltage Regulator 50mA Positive; ki_fp_filters: SOT?23*; Footprint: Package_TO_SOT_SMD:SOT-23-5; Datasheet: https://www.onsemi.com/pdf/datasheet/mc78lc00-d.pdf; Description_: Positive 50mA 12V Linear Regulator, Fixed Output 1.8V, SOT23-5
pins: 1 GND, 2 Vin, 3 Vout, 4 NC, 5 NC

## MC78LC25NTR
designator *  value MC78LC25NTR  Reference: U
Positive 80mA 12V Linear Regulator, Fixed Output 2.5V, SOT23-5; ki_keywords: Voltage Regulator 80mA Positive; ki_fp_filters: SOT?23*; Footprint: Package_TO_SOT_SMD:SOT-23-5; Datasheet: https://www.onsemi.com/pdf/datasheet/mc78lc00-d.pdf; Description_: Positive 80mA 12V Linear Regulator, Fixed Output 2.5V, SOT23-5
pins: 1 GND, 2 Vin, 3 Vout, 4 NC, 5 NC

## MC78LC30NTR
designator *  value MC78LC30NTR  Reference: U
Positive 80mA 12V Linear Regulator, Fixed Output 3V, SOT23-5; ki_keywords: Voltage Regulator 80mA Positive; ki_fp_filters: SOT?23*; Footprint: Package_TO_SOT_SMD:SOT-23-5; Datasheet: https://www.onsemi.com/pdf/datasheet/mc78lc00-d.pdf; Description_: Positive 80mA 12V Linear Regulator, Fixed Output 3V, SOT23-5
pins: 1 GND, 2 Vin, 3 Vout, 4 NC, 5 NC

## MC78LC33NTR
designator *  value MC78LC33NTR  Reference: U
Positive 80mA 12V Linear Regulator, Fixed Output 3.3V, SOT23-5; ki_keywords: Voltage Regulator 80mA Positive; ki_fp_filters: SOT?23*; Footprint: Package_TO_SOT_SMD:SOT-23-5; Datasheet: https://www.onsemi.com/pdf/datasheet/mc78lc00-d.pdf; Description_: Positive 80mA 12V Linear Regulator, Fixed Output 3.3V, SOT23-5
pins: 1 GND, 2 Vin, 3 Vout, 4 NC, 5 NC

## MC78LC50NTR
designator *  value MC78LC50NTR  Reference: U
Positive 100mA 12V Linear Regulator, Fixed Output 5V, SOT23-5; ki_keywords: Voltage Regulator 100mA Positive; ki_fp_filters: SOT?23*; Footprint: Package_TO_SOT_SMD:SOT-23-5; Datasheet: https://www.onsemi.com/pdf/datasheet/mc78lc00-d.pdf; Description_: Positive 100mA 12V Linear Regulator, Fixed Output 5V, SOT23-5
pins: 1 GND, 2 Vin, 3 Vout, 4 NC, 5 NC

## MC78M05_TO252
designator *  value MC78M05_TO252  Reference: U
Positive 500mA 35V Linear Regulator, Fixed Output 5V, TO-252 (D-PAK); ki_keywords: Voltage Regulator 500mA Positive; ki_fp_filters: TO?252*; Footprint: Package_TO_SOT_SMD:TO-252-2; Datasheet: https://www.onsemi.com/pub/Collateral/MC78M00-D.PDF; Description_: Positive 500mA 35V Linear Regulator, Fixed Output 5V, TO-252 (D-PAK)
pins: 1 VI, 2 GND, 3 VO

## MC79L05_SO8
designator *  value MC79L05_SO8  Reference: U
Negative 100mA -30V Linear Regulator, Fixed Output -5V, SO-8; ki_keywords: Voltage Regulator 100mA Negative; ki_fp_filters: SOIC?8*3.9x4.9mm*P1.27mm*; Footprint: Package_SO:SOIC-8_3.9x4.9mm_P1.27mm; Datasheet: http://www.ti.com/lit/ds/symlink/lm79l.pdf; Description_: Negative 100mA -30V Linear Regulator, Fixed Output -5V, SO-8
pins: 1 OUT, 2 IN, 3 IN, 4 NC, 5 GND, 6 IN, 7 IN, 8 NC

## MC79L12_SO8
designator *  value MC79L12_SO8  Reference: U
Negative 100mA -35V Linear Regulator, Fixed Output -12V, SO-8; ki_keywords: Voltage Regulator 100mA Negative; ki_fp_filters: SOIC?8*3.9x4.9mm*P1.27mm*; Footprint: Package_SO:SOIC-8_3.9x4.9mm_P1.27mm; Datasheet: http://www.ti.com/lit/ds/symlink/lm79l.pdf; Description_: Negative 100mA -35V Linear Regulator, Fixed Output -12V, SO-8
pins: 1 OUT, 2 IN, 3 IN, 4 NC, 5 GND, 6 IN, 7 IN, 8 NC

## MC79L15_SO8
designator *  value MC79L15_SO8  Reference: U
Negative 100mA -35V Linear Regulator, Fixed Output -15V, SO-8; ki_keywords: Voltage Regulator 100mA Negative; ki_fp_filters: SOIC?8*3.9x4.9mm*P1.27mm*; Footprint: Package_SO:SOIC-8_3.9x4.9mm_P1.27mm; Datasheet: http://www.ti.com/lit/ds/symlink/lm79l.pdf; Description_: Negative 100mA -35V Linear Regulator, Fixed Output -15V, SO-8
pins: 1 OUT, 2 IN, 3 IN, 4 NC, 5 GND, 6 IN, 7 IN, 8 NC

## MC79M05_TO220
designator *  value MC79M05_TO220  Reference: U
Negative 500mA 35V Linear Regulator, Fixed Output -5V, TO-220; ki_keywords: Voltage Regulator 500mA Negative; ki_fp_filters: TO?220*; Footprint: Package_TO_SOT_THT:TO-220-3_Vertical; Datasheet: http://www.onsemi.com/pub/Collateral/MC79M00-D.PDF; Description_: Negative 500mA 35V Linear Regulator, Fixed Output -5V, TO-220
pins: 1 GND, 2 VI, 3 VO

## MC79M05_TO252
designator *  value MC79M05_TO252  Reference: U
Negative 500mA 35V Linear Regulator, Fixed Output -5V, TO-252; ki_keywords: Voltage Regulator 500mA Negative; ki_fp_filters: TO?252*; Footprint: Package_TO_SOT_SMD:TO-252-2; Datasheet: http://www.onsemi.com/pub/Collateral/MC79M00-D.PDF; Description_: Negative 500mA 35V Linear Regulator, Fixed Output -5V, TO-252
pins: 1 GND, 2 VI, 3 VO

## MC79M08_TO220
designator *  value MC79M08_TO220  Reference: U
Negative 500mA 35V Linear Regulator, Fixed Output -8V, TO-220; ki_keywords: Voltage Regulator 500mA Negative; ki_fp_filters: TO?220*; Footprint: Package_TO_SOT_THT:TO-220-3_Vertical; Datasheet: http://www.onsemi.com/pub/Collateral/MC79M00-D.PDF; Description_: Negative 500mA 35V Linear Regulator, Fixed Output -8V, TO-220
pins: 1 GND, 2 VI, 3 VO

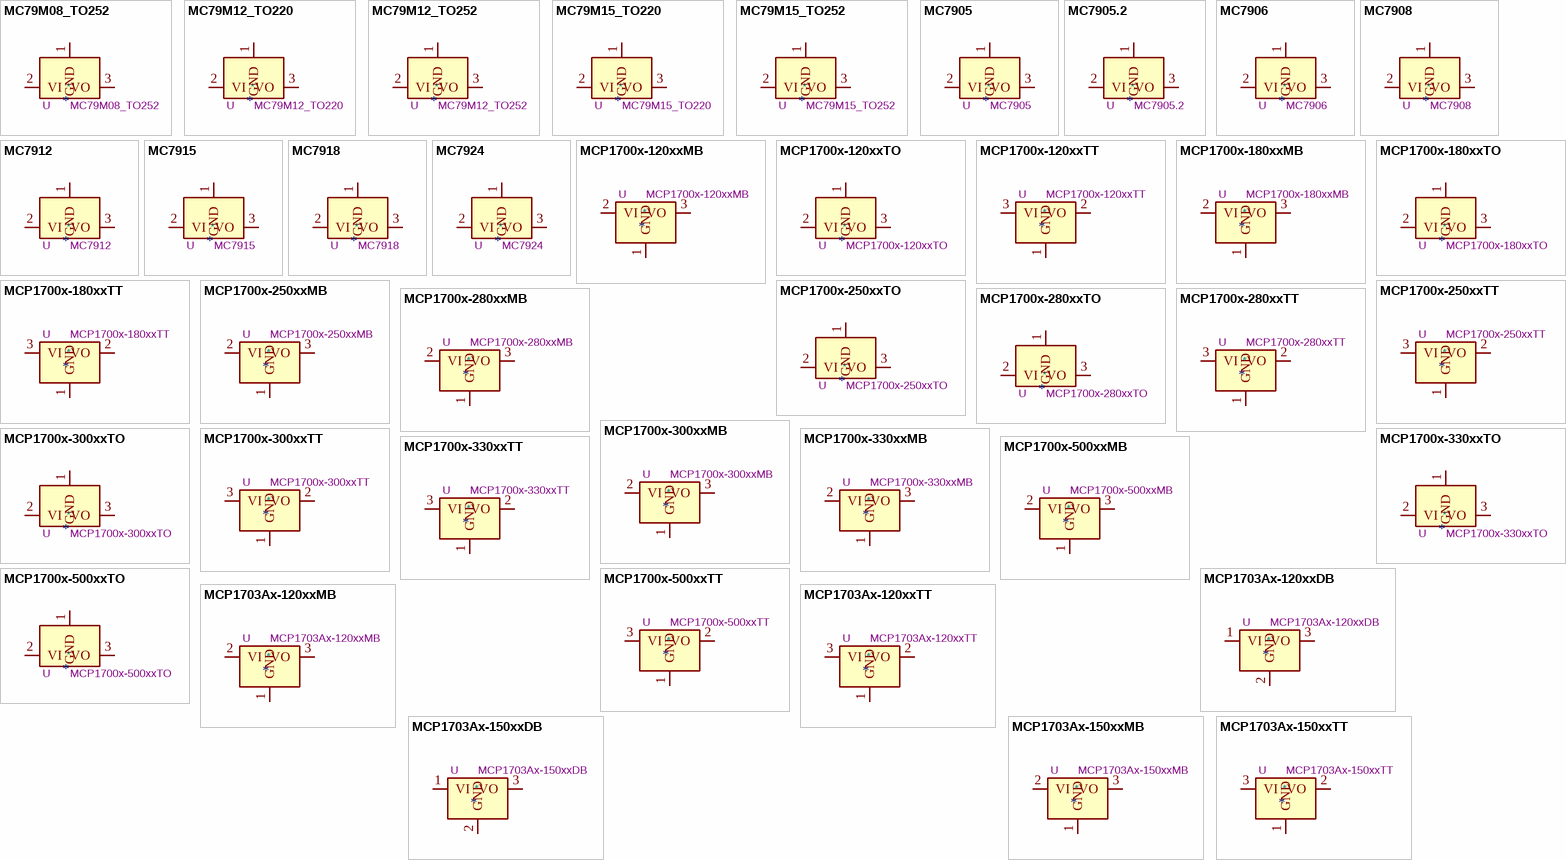
[diagram p23: symbols MC79M08_TO252 to MCP1703Ax-150xxTT]

## MC79M08_TO252
designator *  value MC79M08_TO252  Reference: U
Negative 500mA 35V Linear Regulator, Fixed Output -8V, TO-252; ki_keywords: Voltage Regulator 500mA Negative; ki_fp_filters: TO?252*; Footprint: Package_TO_SOT_SMD:TO-252-2; Datasheet: http://www.onsemi.com/pub/Collateral/MC79M00-D.PDF; Description_: Negative 500mA 35V Linear Regulator, Fixed Output -8V, TO-252
pins: 1 GND, 2 VI, 3 VO

## MC79M12_TO220
designator *  value MC79M12_TO220  Reference: U
Negative 500mA 35V Linear Regulator, Fixed Output -12V, TO-220; ki_keywords: Voltage Regulator 500mA Negative; ki_fp_filters: TO?220*; Footprint: Package_TO_SOT_THT:TO-220-3_Vertical; Datasheet: http://www.onsemi.com/pub/Collateral/MC79M00-D.PDF; Description_: Negative 500mA 35V Linear Regulator, Fixed Output -12V, TO-220
pins: 1 GND, 2 VI, 3 VO

## MC79M12_TO252
designator *  value MC79M12_TO252  Reference: U
Negative 500mA 35V Linear Regulator, Fixed Output -12V, TO-252; ki_keywords: Voltage Regulator 500mA Negative; ki_fp_filters: TO?252*; Footprint: Package_TO_SOT_SMD:TO-252-2; Datasheet: http://www.onsemi.com/pub/Collateral/MC79M00-D.PDF; Description_: Negative 500mA 35V Linear Regulator, Fixed Output -12V, TO-252
pins: 1 GND, 2 VI, 3 VO

## MC79M15_TO220
designator *  value MC79M15_TO220  Reference: U
Negative 500mA 35V Linear Regulator, Fixed Output -15V, TO-220; ki_keywords: Voltage Regulator 500mA Negative; ki_fp_filters: TO?220*; Footprint: Package_TO_SOT_THT:TO-220-3_Vertical; Datasheet: http://www.onsemi.com/pub/Collateral/MC79M00-D.PDF; Description_: Negative 500mA 35V Linear Regulator, Fixed Output -15V, TO-220
pins: 1 GND, 2 VI, 3 VO

## MC79M15_TO252
designator *  value MC79M15_TO252  Reference: U
Negative 500mA 35V Linear Regulator, Fixed Output -15V, TO-252; ki_keywords: Voltage Regulator 500mA Negative; ki_fp_filters: TO?252*; Footprint: Package_TO_SOT_SMD:TO-252-2; Datasheet: http://www.onsemi.com/pub/Collateral/MC79M00-D.PDF; Description_: Negative 500mA 35V Linear Regulator, Fixed Output -15V, TO-252
pins: 1 GND, 2 VI, 3 VO

## MC7905
designator *  value MC7905  Reference: U
Negative 1A 35V Linear Regulator, Fixed Output -5V, TO-220/TO-263; ki_keywords: Voltage Regulator 1.5A Negative; ki_fp_filters: TO?220* TO?263*; Datasheet: http://www.onsemi.com/pub/Collateral/MC7900-D.PDF; Description_: Negative 1A 35V Linear Regulator, Fixed Output -5V, TO-220/TO-263
pins: 1 GND, 2 VI, 3 VO

## MC7905.2
designator *  value MC7905.2  Reference: U
Negative 1A 35V Linear Regulator, Fixed Output -5.2V, TO-220/TO-263; ki_keywords: Voltage Regulator 1.5A Negative; ki_fp_filters: TO?220* TO?263*; Datasheet: http://www.onsemi.com/pub/Collateral/MC7900-D.PDF; Description_: Negative 1A 35V Linear Regulator, Fixed Output -5.2V, TO-220/TO-263
pins: 1 GND, 2 VI, 3 VO

## MC7906
designator *  value MC7906  Reference: U
Negative 1A 35V Linear Regulator, Fixed Output -6V, TO-220/TO-263; ki_keywords: Voltage Regulator 1.5A Negative; ki_fp_filters: TO?220* TO?263*; Datasheet: http://www.onsemi.com/pub/Collateral/MC7900-D.PDF; Description_: Negative 1A 35V Linear Regulator, Fixed Output -6V, TO-220/TO-263
pins: 1 GND, 2 VI, 3 VO

## MC7908
designator *  value MC7908  Reference: U
Negative 1A 35V Linear Regulator, Fixed Output -8V, TO-220/TO-263; ki_keywords: Voltage Regulator 1.5A Negative; ki_fp_filters: TO?220* TO?263*; Datasheet: http://www.onsemi.com/pub/Collateral/MC7900-D.PDF; Description_: Negative 1A 35V Linear Regulator, Fixed Output -8V, TO-220/TO-263
pins: 1 GND, 2 VI, 3 VO

## MC7912
designator *  value MC7912  Reference: U
Negative 1A 35V Linear Regulator, Fixed Output -12V, TO-220/TO-263; ki_keywords: Voltage Regulator 1.5A Negative; ki_fp_filters: TO?220* TO?263*; Datasheet: http://www.onsemi.com/pub/Collateral/MC7900-D.PDF; Description_: Negative 1A 35V Linear Regulator, Fixed Output -12V, TO-220/TO-263
pins: 1 GND, 2 VI, 3 VO

## MC7915
designator *  value MC7915  Reference: U
Negative 1A 35V Linear Regulator, Fixed Output -15V, TO-220/TO-263; ki_keywords: Voltage Regulator 1.5A Negative; ki_fp_filters: TO?220* TO?263*; Datasheet: http://www.onsemi.com/pub/Collateral/MC7900-D.PDF; Description_: Negative 1A 35V Linear Regulator, Fixed Output -15V, TO-220/TO-263
pins: 1 GND, 2 VI, 3 VO

## MC7918
designator *  value MC7918  Reference: U
Negative 1A 35V Linear Regulator, Fixed Output -18V, TO-220/TO-263; ki_keywords: Voltage Regulator 1.5A Negative; ki_fp_filters: TO?220* TO?263*; Datasheet: http://www.onsemi.com/pub/Collateral/MC7900-D.PDF; Description_: Negative 1A 35V Linear Regulator, Fixed Output -18V, TO-220/TO-263
pins: 1 GND, 2 VI, 3 VO

## MC7924
designator *  value MC7924  Reference: U
Negative 1A 40V Linear Regulator, Fixed Output -24V, TO-220/TO-263; ki_keywords: Voltage Regulator 1.5A Negative; ki_fp_filters: TO?220* TO?263*; Datasheet: http://www.onsemi.com/pub/Collateral/MC7900-D.PDF; Description_: Negative 1A 40V Linear Regulator, Fixed Output -24V, TO-220/TO-263
pins: 1 GND, 2 VI, 3 VO

## MCP1700x-120xxMB
designator *  value MCP1700x-120xxMB  Reference: U
250mA Low Quiscent Current LDO, 1.2V output, SOT-89; ki_keywords: regulator linear ldo; ki_fp_filters: SOT?89*; Footprint: Package_TO_SOT_SMD:SOT-89-3; Datasheet: http://ww1.microchip.com/downloads/en/DeviceDoc/20001826D.pdf; Description_: 250mA Low Quiscent Current LDO, 1.2V output, SOT-89
pins: 1 GND, 2 VI, 3 VO

## MCP1700x-120xxTO
designator *  value MCP1700x-120xxTO  Reference: U
250mA Low Quiscent Current LDO, 1.2V output, TO-92; ki_keywords: regulator linear ldo; ki_fp_filters: TO?92*; Footprint: Package_TO_SOT_THT:TO-92_Inline; Datasheet: http://ww1.microchip.com/downloads/en/DeviceDoc/20001826D.pdf; Description_: 250mA Low Quiscent Current LDO, 1.2V output, TO-92
pins: 1 GND, 2 VI, 3 VO

## MCP1700x-120xxTT
designator *  value MCP1700x-120xxTT  Reference: U
250mA Low Quiscent Current LDO, 1.2V output, SOT-23; ki_keywords: regulator linear ldo; ki_fp_filters: SOT?23*; Footprint: Package_TO_SOT_SMD:SOT-23; Datasheet: http://ww1.microchip.com/downloads/en/DeviceDoc/20001826D.pdf; Description_: 250mA Low Quiscent Current LDO, 1.2V output, SOT-23
pins: 1 GND, 2 VO, 3 VI

## MCP1700x-180xxMB
designator *  value MCP1700x-180xxMB  Reference: U
250mA Low Quiscent Current LDO, 1.8V output, SOT-89; ki_keywords: regulator linear ldo; ki_fp_filters: SOT?89*; Footprint: Package_TO_SOT_SMD:SOT-89-3; Datasheet: http://ww1.microchip.com/downloads/en/DeviceDoc/20001826D.pdf; Description_: 250mA Low Quiscent Current LDO, 1.8V output, SOT-89
pins: 1 GND, 2 VI, 3 VO

## MCP1700x-180xxTO
designator *  value MCP1700x-180xxTO  Reference: U
250mA Low Quiscent Current LDO, 1.8V output, TO-92; ki_keywords: regulator linear ldo; ki_fp_filters: TO?92*; Footprint: Package_TO_SOT_THT:TO-92_Inline; Datasheet: http://ww1.microchip.com/downloads/en/DeviceDoc/20001826D.pdf; Description_: 250mA Low Quiscent Current LDO, 1.8V output, TO-92
pins: 1 GND, 2 VI, 3 VO

## MCP1700x-180xxTT
designator *  value MCP1700x-180xxTT  Reference: U
250mA Low Quiscent Current LDO, 1.8V output, SOT-23; ki_keywords: regulator linear ldo; ki_fp_filters: SOT?23*; Footprint: Package_TO_SOT_SMD:SOT-23; Datasheet: http://ww1.microchip.com/downloads/en/DeviceDoc/20001826D.pdf; Description_: 250mA Low Quiscent Current LDO, 1.8V output, SOT-23
pins: 1 GND, 2 VO, 3 VI

## MCP1700x-250xxMB
designator *  value MCP1700x-250xxMB  Reference: U
250mA Low Quiscent Current LDO, 2.5V output, SOT-89; ki_keywords: regulator linear ldo; ki_fp_filters: SOT?89*; Footprint: Package_TO_SOT_SMD:SOT-89-3; Datasheet: http://ww1.microchip.com/downloads/en/DeviceDoc/20001826D.pdf; Description_: 250mA Low Quiscent Current LDO, 2.5V output, SOT-89
pins: 1 GND, 2 VI, 3 VO

## MCP1700x-250xxTO
designator *  value MCP1700x-250xxTO  Reference: U
250mA Low Quiscent Current LDO, 2.5V output, TO-92; ki_keywords: regulator linear ldo; ki_fp_filters: TO?92*; Footprint: Package_TO_SOT_THT:TO-92_Inline; Datasheet: http://ww1.microchip.com/downloads/en/DeviceDoc/20001826D.pdf; Description_: 250mA Low Quiscent Current LDO, 2.5V output, TO-92
pins: 1 GND, 2 VI, 3 VO

## MCP1700x-250xxTT
designator *  value MCP1700x-250xxTT  Reference: U
250mA Low Quiscent Current LDO, 2.5V output, SOT-23; ki_keywords: regulator linear ldo; ki_fp_filters: SOT?23*; Footprint: Package_TO_SOT_SMD:SOT-23; Datasheet: http://ww1.microchip.com/downloads/en/DeviceDoc/20001826D.pdf; Description_: 250mA Low Quiscent Current LDO, 2.5V output, SOT-23
pins: 1 GND, 2 VO, 3 VI

## MCP1700x-280xxMB
designator *  value MCP1700x-280xxMB  Reference: U
250mA Low Quiscent Current LDO, 2.8V output, SOT-89; ki_keywords: regulator linear ldo; ki_fp_filters: SOT?89*; Footprint: Package_TO_SOT_SMD:SOT-89-3; Datasheet: http://ww1.microchip.com/downloads/en/DeviceDoc/20001826D.pdf; Description_: 250mA Low Quiscent Current LDO, 2.8V output, SOT-89
pins: 1 GND, 2 VI, 3 VO

## MCP1700x-280xxTO
designator *  value MCP1700x-280xxTO  Reference: U
250mA Low Quiscent Current LDO, 2.8V output, TO-92; ki_keywords: regulator linear ldo; ki_fp_filters: TO?92*; Footprint: Package_TO_SOT_THT:TO-92_Inline; Datasheet: http://ww1.microchip.com/downloads/en/DeviceDoc/20001826D.pdf; Description_: 250mA Low Quiscent Current LDO, 2.8V output, TO-92
pins: 1 GND, 2 VI, 3 VO

## MCP1700x-280xxTT
designator *  value MCP1700x-280xxTT  Reference: U
250mA Low Quiscent Current LDO, 2.8V output, SOT-23; ki_keywords: regulator linear ldo; ki_fp_filters: SOT?23*; Footprint: Package_TO_SOT_SMD:SOT-23; Datasheet: http://ww1.microchip.com/downloads/en/DeviceDoc/20001826D.pdf; Description_: 250mA Low Quiscent Current LDO, 2.8V output, SOT-23
pins: 1 GND, 2 VO, 3 VI

## MCP1700x-300xxMB
designator *  value MCP1700x-300xxMB  Reference: U
250mA Low Quiscent Current LDO, 3.0V output, SOT-89; ki_keywords: regulator linear ldo; ki_fp_filters: SOT?89*; Footprint: Package_TO_SOT_SMD:SOT-89-3; Datasheet: http://ww1.microchip.com/downloads/en/DeviceDoc/20001826D.pdf; Description_: 250mA Low Quiscent Current LDO, 3.0V output, SOT-89
pins: 1 GND, 2 VI, 3 VO

## MCP1700x-300xxTO
designator *  value MCP1700x-300xxTO  Reference: U
250mA Low Quiscent Current LDO, 3.0V output, TO-92; ki_keywords: regulator linear ldo; ki_fp_filters: TO?92*; Footprint: Package_TO_SOT_THT:TO-92_Inline; Datasheet: http://ww1.microchip.com/downloads/en/DeviceDoc/20001826D.pdf; Description_: 250mA Low Quiscent Current LDO, 3.0V output, TO-92
pins: 1 GND, 2 VI, 3 VO

## MCP1700x-300xxTT
designator *  value MCP1700x-300xxTT  Reference: U
250mA Low Quiscent Current LDO, 3.0V output, SOT-23; ki_keywords: regulator linear ldo; ki_fp_filters: SOT?23*; Footprint: Package_TO_SOT_SMD:SOT-23; Datasheet: http://ww1.microchip.com/downloads/en/DeviceDoc/20001826D.pdf; Description_: 250mA Low Quiscent Current LDO, 3.0V output, SOT-23
pins: 1 GND, 2 VO, 3 VI

## MCP1700x-330xxMB
designator *  value MCP1700x-330xxMB  Reference: U
250mA Low Quiscent Current LDO, 3.3V output, SOT-89; ki_keywords: regulator linear ldo; ki_fp_filters: SOT?89*; Footprint: Package_TO_SOT_SMD:SOT-89-3; Datasheet: http://ww1.microchip.com/downloads/en/DeviceDoc/20001826D.pdf; Description_: 250mA Low Quiscent Current LDO, 3.3V output, SOT-89
pins: 1 GND, 2 VI, 3 VO

## MCP1700x-330xxTO
designator *  value MCP1700x-330xxTO  Reference: U
250mA Low Quiscent Current LDO, 3.3V output, TO-92; ki_keywords: regulator linear ldo; ki_fp_filters: TO?92*; Footprint: Package_TO_SOT_THT:TO-92_Inline; Datasheet: http://ww1.microchip.com/downloads/en/DeviceDoc/20001826D.pdf; Description_: 250mA Low Quiscent Current LDO, 3.3V output, TO-92
pins: 1 GND, 2 VI, 3 VO

## MCP1700x-330xxTT
designator *  value MCP1700x-330xxTT  Reference: U
250mA Low Quiscent Current LDO, 3.3V output, SOT-23; ki_keywords: regulator linear ldo; ki_fp_filters: SOT?23*; Footprint: Package_TO_SOT_SMD:SOT-23; Datasheet: http://ww1.microchip.com/downloads/en/DeviceDoc/20001826D.pdf; Description_: 250mA Low Quiscent Current LDO, 3.3V output, SOT-23
pins: 1 GND, 2 VO, 3 VI

## MCP1700x-500xxMB
designator *  value MCP1700x-500xxMB  Reference: U
250mA Low Quiscent Current LDO, 5.0V output, SOT-89; ki_keywords: regulator linear ldo; ki_fp_filters: SOT?89*; Footprint: Package_TO_SOT_SMD:SOT-89-3; Datasheet: http://ww1.microchip.com/downloads/en/DeviceDoc/20001826D.pdf; Description_: 250mA Low Quiscent Current LDO, 5.0V output, SOT-89
pins: 1 GND, 2 VI, 3 VO

## MCP1700x-500xxTO
designator *  value MCP1700x-500xxTO  Reference: U
250mA Low Quiscent Current LDO, 5.0V output, TO-92; ki_keywords: regulator linear ldo; ki_fp_filters: TO?92*; Footprint: Package_TO_SOT_THT:TO-92_Inline; Datasheet: http://ww1.microchip.com/downloads/en/DeviceDoc/20001826D.pdf; Description_: 250mA Low Quiscent Current LDO, 5.0V output, TO-92
pins: 1 GND, 2 VI, 3 VO

## MCP1700x-500xxTT
designator *  value MCP1700x-500xxTT  Reference: U
250mA Low Quiscent Current LDO, 5.0V output, SOT-23; ki_keywords: regulator linear ldo; ki_fp_filters: SOT?23*; Footprint: Package_TO_SOT_SMD:SOT-23; Datasheet: http://ww1.microchip.com/downloads/en/DeviceDoc/20001826D.pdf; Description_: 250mA Low Quiscent Current LDO, 5.0V output, SOT-23
pins: 1 GND, 2 VO, 3 VI

## MCP1703Ax-120xxDB
designator *  value MCP1703Ax-120xxDB  Reference: U
Low Quiescent Current LDO Regulator, 1.2V, 250mA, Vin<=16V, SOT-223; ki_keywords: REGULATOR LDO; ki_fp_filters: SOT?223*TabPin2*; Footprint: Package_TO_SOT_SMD:SOT-223-3_TabPin2; Datasheet: http://ww1.microchip.com/downloads/en/DeviceDoc/20005122B.pdf; Description_: Low Quiescent Current LDO Regulator, 1.2V, 250mA, Vin<=16V, SOT-223
pins: 1 VI, 2 GND, 3 VO

## MCP1703Ax-120xxMB
designator *  value MCP1703Ax-120xxMB  Reference: U
Low Quiescent Current LDO Regulator, 1.2V, 250mA, Vin<=16V, SOT-89; ki_keywords: REGULATOR LDO; ki_fp_filters: SOT?89*; Footprint: Package_TO_SOT_SMD:SOT-89-3; Datasheet: http://ww1.microchip.com/downloads/en/DeviceDoc/20005122B.pdf; Description_: Low Quiescent Current LDO Regulator, 1.2V, 250mA, Vin<=16V, SOT-89
pins: 1 GND, 2 VI, 3 VO